# Altium schematic symbol library DF51K-2P-2DSA(800).Schlib: 1 symbol
Pins are listed as number, name and electrical type; pins without a type are passive.

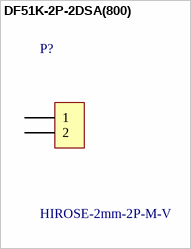
[diagram p0: symbol DF51K-2P-2DSA(800)]

## DF51K-2P-2DSA(800)
designator P?, comment HIROSE-2mm-2P-M-V
Hirose 2 Pin, Vertical Angle Pin Header
pins: 1, 2